# EAGLE library part UG-2864_0.96 (library OLED_SSD1306_BreakoutBoard_UG-2864_0_96)
OLED SSD1306 0.96" Breakout Board Model UG-2864 0.96 WN-096 Design by Giovanni Bernardo www.settorezero.com
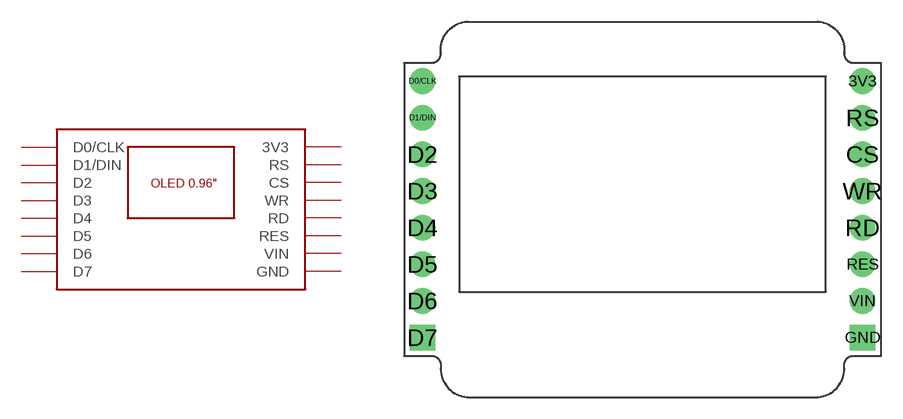
[diagram p0: symbol with the pads of UG-2864_0.96; footprint UG-2864_0.96]

Designator prefix -

## UG-2864_0.96  [UG-2864_0.96]
3V3  3V3  pwr
CS  CS
D0/CLK  D0/CLK
D1/DIN  D1/DIN
D2  D2
D3  D3
D4  D4
D5  D5
D6  D6
D7  D7
GND  GND  pwr
RD  RD
RES  RES
RS  RS
VIN  VIN  pwr
WR  WR

## Footprint UG-2864_0.96 (pad centres in mm)
OLED SSD1306 0.96" Breakout Board
drill 0.8 pad 1.778: 3V3 30.48,0; CS 30.48,-5.08; D0/CLK 0,0; D1/DIN 0,-2.54; D2 0,-5.08; D3 0,-7.62; D4 0,-10.16; D5 0,-12.7; D6 0,-15.24; RD 30.48,-10.16; RES 30.48,-12.7; RS 30.48,-2.54; VIN 30.48,-15.24; WR 30.48,-7.62
drill 0.8 pad 1.778 square: D7 0,-17.78; GND 30.48,-17.78